# Altium footprint library PCB - CAPACITOR - EEEFK0J332AV.PcbLib: 1 footprints
Each footprint in its own frame and in the unit in brackets; x right, y up, seen from the top. Pads: shape width x height; smd on the part's side, far side on the other; paste and mask are expansions set on the pad; w line width, h text height; cw(c..) or ccw(c..) is an arc to the next point about the centre after c.
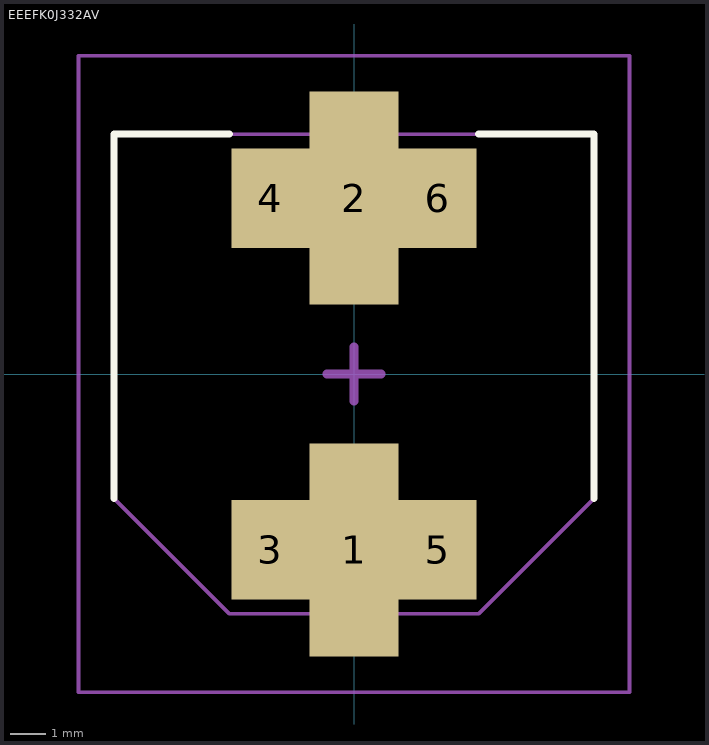
[diagram p0: the footprint, top view; thin cyan lines are the x and y axes]

## EEEFK0J332AV [mm]
pads (6):
  rect 2.5x6 smd: 1(0,-4.95) 2(0,4.95)
  rect 2.2x2.8 smd: 3(-2.35,-4.95) 4(-2.35,4.95) 5(2.35,-4.95) 6(2.35,4.95)
Top Overlay:
  lines w0.2: -6.75,-3.5 -6.75,6.75 -3.5,6.75 ; 3.5,6.75 6.75,6.75 6.75,-3.5
Top Assembly:
  lines w0.1: -6.75,-3.5 -3.5,-6.75 3.5,-6.75 6.75,-3.5 6.75,6.75 -6.75,6.75 -6.75,-3.5
Top Courtyard:
  lines w0.1: -7.75,-8.95 7.75,-8.95 7.75,8.95 -7.75,8.95 -7.75,-8.95
Top Designator:
  text ".Designator" at -7.747,9.271 h1.52
Top Component Center:
  lines w0.254: -0.762,0 0,0 ; 0,-0.762 0,0 ; 0,0.762 0,0 ; 0.762,0 0,0
3D body "EEV-FK2A470V.stp": height 13.8, standoff 0, extent -6.75,-7.45 6.75,7.45